# EAGLE library part TYPE-C_16PIN_2MD__073_ (library TYPE-C_16PIN_2MD__073_)
Check availability <https://pricing.snapeda.com/parts/TYPE-C%2016PIN%202MD%20%28073%29/Shouhan/view-part?ref=eda>
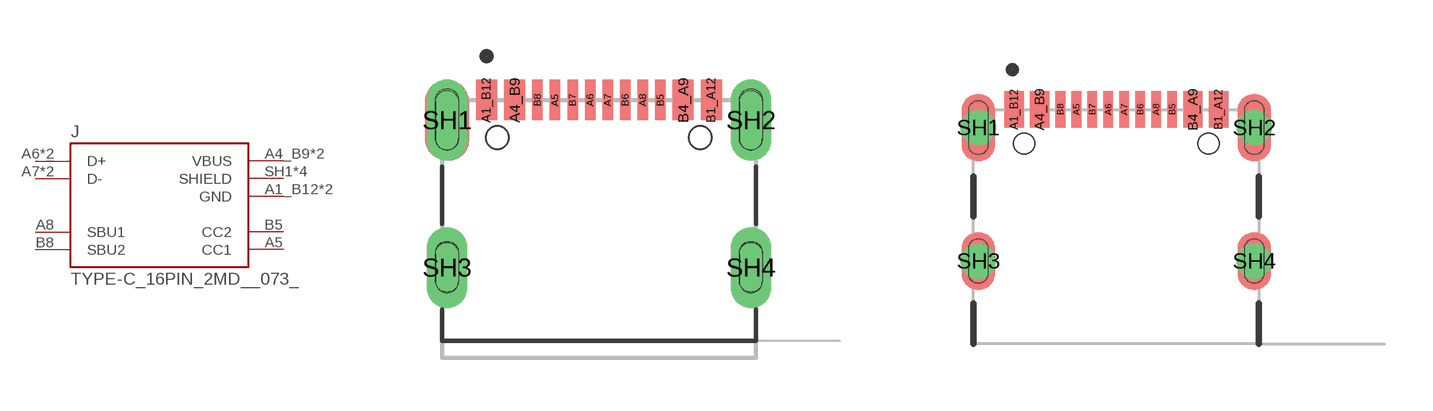
[diagram p0: symbol with the pads of SHOUHAN_TYPE-C_16PIN_2MD__073_; footprints SHOUHAN_TYPE-C_16PIN_2MD__073_, GCT_USB4105-GF-A]

Designator prefix J

## TYPE-C_16PIN_2MD__073_ (AVAILABILITY: Not in stock; CHECK_PRICES: https://www.snapeda.com/parts/TYPE-C%2016PIN%202MD%20(073)/Shouhan/view-part/?ref=eda; DESCRIPTION: DC-5V 5A Type C USB; JLCPCB: C393939; MF: Shouhan; MP: TYPE-C 16PIN 2MD (073); PACKAGE: Package; PRICE: None; SNAPEDA_LINK: https://www.snapeda.com/parts/TYPE-C%2016PIN%202MD%20(073)/Shouhan/view-part/?ref=snap)  [SHOUHAN_TYPE-C_16PIN_2MD__073_]
A1_B12  GND  pwr
A4_B9  VBUS  pwr
A5  CC1
A6  D+
A7  D-
A8  SBU1
B1_A12  GND  pwr
B4_A9  VBUS  pwr
B5  CC2
B6  D+
B7  D-
B8  SBU2
SH1  SHIELD  pas
SH2  SHIELD  pas
SH3  SHIELD  pas
SH4  SHIELD  pas

## TYPE-C_16PIN_2MD__073_C  [GCT_USB4105-GF-A]
Pads as for SHOUHAN_TYPE-C_16PIN_2MD__073_

## Footprint SHOUHAN_TYPE-C_16PIN_2MD__073_ (pad centres in mm)
smd 0.6 x 1.15: A1_B12 -3.2,3.675; A4_B9 -2.4,3.675; B1_A12 3.2,3.675; B4_A9 2.4,3.675
smd 0.3 x 1.15: A5 -1.25,3.675; A6 -0.25,3.675; A7 0.25,3.675; A8 1.25,3.675; B5 1.75,3.675; B6 0.75,3.675; B7 -0.75,3.675; B8 -1.75,3.675
drill 0.65 pad 1 long: SH1 -4.325,3.1; SH2 4.325,3.1; SH3 -4.325,-1.1; SH4 4.325,-1.1
hole 0.65 at -2.89,2.605
hole 0.65 at 2.89,2.605

## Footprint GCT_USB4105-GF-A (pad centres in mm)
smd 0.6 x 1.15: A1_B12 -3.2,4.755; A4_B9 -2.4,4.755; B1_A12 3.2,4.755; B4_A9 2.4,4.755
smd 0.3 x 1.15: A5 -1.25,4.755; A6 -0.25,4.755; A7 0.25,4.755; A8 1.25,4.755; B5 1.75,4.755; B6 0.75,4.755; B7 -0.75,4.755; B8 -1.75,4.755
drill 0.6 pad 1: SH1 -4.32,4.18; SH2 4.32,4.18; SH3 -4.32,0; SH4 4.32,0
hole 0.65 at 2.89,3.68
hole 0.65 at -2.89,3.68